# EAGLE library part RM-92A (library RM-92A)
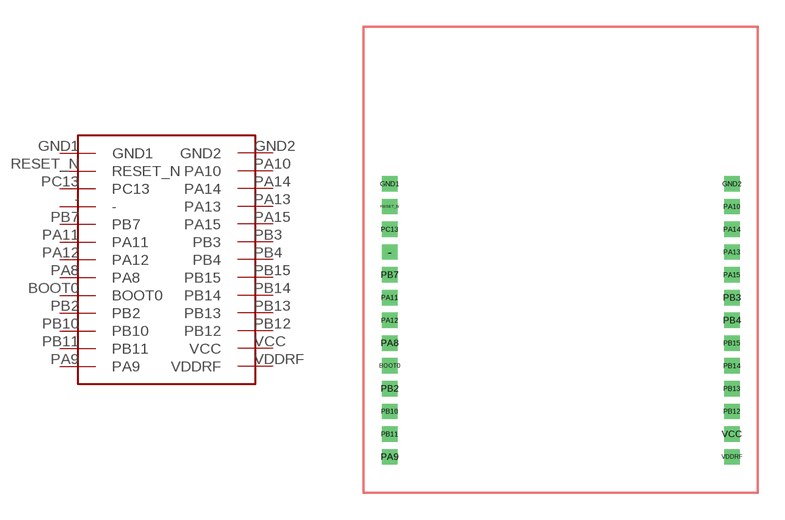
[diagram p0: symbol with the pads of RM-92A; footprint RM-92A]

Designator prefix -

## RM-92A  [RM-92A]
-  -
BOOT0  BOOT0
GND1  GND1
GND2  GND2
PA8  PA8
PA9  PA9
PA10  PA10
PA11  PA11
PA12  PA12
PA13  PA13
PA14  PA14
PA15  PA15
PB2  PB2
PB3  PB3
PB4  PB4
PB7  PB7
PB10  PB10
PB11  PB11
PB12  PB12
PB13  PB13
PB14  PB14
PB15  PB15
PC13  PC13
RESET_N  RESET_N
VCC  VCC
VDDRF  VDDRF

## Footprint RM-92A (pad centres in mm)
drill 0.35 square: - 0,11.43; BOOT0 0,5.08; GND1 0,15.24; GND2 19.1,15.24; PA8 0,6.35; PA9 0,0; PA10 19.1,13.97; PA11 0,8.89; PA12 0,7.62; PA13 19.1,11.43; PA14 19.1,12.7; PA15 19.1,10.16; PB2 0,3.81; PB3 19.1,8.89; PB4 19.1,7.62; PB7 0,10.16; PB10 0,2.54; PB11 0,1.27; PB12 19.1,2.54; PB13 19.1,3.81; PB14 19.1,5.08; PB15 19.1,6.35; PC13 0,12.7; RESET_N 0,13.97; VCC 19.1,1.27; VDDRF 19.1,0